# Altium schematic symbol library BFP196(R).SchLib: 1 symbol
Pins are listed as number, name and electrical type; pins without a type are passive.

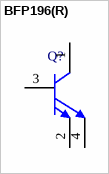
[diagram p0: symbol BFP196(R)]

## BFP196(R)
designator Q?
NPN Silicon RF Transistor, 12 V VCEO, 150 mA IC, 16.5 dB Gmax, SOT143, Green; Manufacturer: Infineon; PartNumber: BFP196(R); Gmax (typ): 16.5 dB; Green: yes; Group: For low frequencies, e.g. VHF/UHF; IC (max): 150 mA; NFmin (typ): 1.3 dB; Ptot (max): 700mW; VCEO (max): 12 V; DatasheetVersion: Apr-2007; PackageReference: SOT143; PackageDescription: 4-Pin Small Outline Transistor Package, 1.3 x 2.9 mm Body; Mounting Technology: Surface Mount; ComponentLink1Description: Manufacturer URL; ComponentLink1URL: http://www.infineon.com/; ComponentLink2Description: Datasheet; ComponentLink2URL: http://www.infineon.com/dgdl/bfp196.pdf?folderId=db3a30431400ef68011425b1354605c1&fileId=db3a30431400ef680114267c0ec70624&location=en.Products.RF.RF_Transistors_.High_Linearity_Si-_and_SiGe_C-Transistors_for_use_up_to_6_GHz.DATASHEET.bfp196.pdf; ComponentLink3Description: Package Specification; ComponentLink3URL: http://www.infineon.com/dgdl/SOT143-Package_Overview.pdf?folderId=db3a30431936bc4b011952ce8b1b3bed&fileId=db3a30431936bc4b011952df42203c0c
footprint INF-SOT143_V (SOT143, 4-Leads, Body 2.9x1.3 mm)
pins: 1 C, 2 E, 3 B, 4 E